# Altium schematic symbol library BAT54SW.SchLib: 1 symbol
Pins are listed as number, name and electrical type; pins without a type are passive.

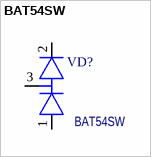
[diagram p0: symbol BAT54SW]

## BAT54SW
designator VD?
Schottky diodes; Назначение: Диодная сборка; ComponentLink1Description: DataSheet; Наименование: BAT54SW
footprint SOT-323 (SC-70) (SOT23, 3-Leads, Body 2x1.25mm, Pitch 0.65mm)
pins: 1 5, 2 4, 3 6